# Altium schematic symbol library Fuse.SchLib: 2 symbols
Pins are listed as number, name and electrical type; pins without a type are passive.

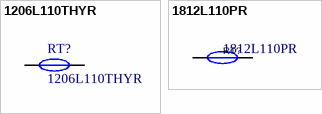
[diagram p0: symbols 1206L110THYR to 1812L110PR]

## 1206L110THYR
designator RT?
6V 1.1A 1206 Resettable Fuses ROHS
footprint 1206_PST_60 (PST 1206 0.60mm height)
pins: 1, 2

## 1812L110PR
designator RT?
8V 1.1A 100A 2.2A 1812 Resettable Fuses ROHS; Manufacturer: Littelfuse(美国力特); Add into BOM: yes; Resistance - Initial (Ri) (Min): 40mΩ; Resistance - Post Trip (R1) (Max): 210mΩ; Maximum Time to Trip: 300ms; Symbol: 1812L110PR; Device: 1812L110PR; LCSC Part Name: 8V 1.1A 1812 Resettable; Supplier Part: C163516; Manufacturer Part: 1812L110PR; Supplier Footprint: 1812; JLCPCB Part Class: Extended Part; Datasheet: https://atta.szlcsc.com/upload/public/pdf/source/20181031/C315901_C3D1AA68B7E2FCFB6B7163300867CF3D.pdf; Supplier: LCSC; Convert to PCB: yes; Operating Voltage (Max): 8V; Current Rating (Max): 100A; Hold Current: 1.1A; Trip Current: 2.2A; Power Dissipation: -; Operating Temperature: -40℃~+85℃
footprint FUSE-SMD_L4.7-W3.4
footprint 1812_PST
pins: 1, 2